# Altium footprint library SSOP24.PcbLib: 4 footprints
Each footprint in its own frame and in the unit in brackets; x right, y up, seen from the top. Pads: shape width x height; smd on the part's side, far side on the other; paste and mask are expansions set on the pad; w line width, h text height; cw(c..) or ccw(c..) is an arc to the next point about the centre after c.
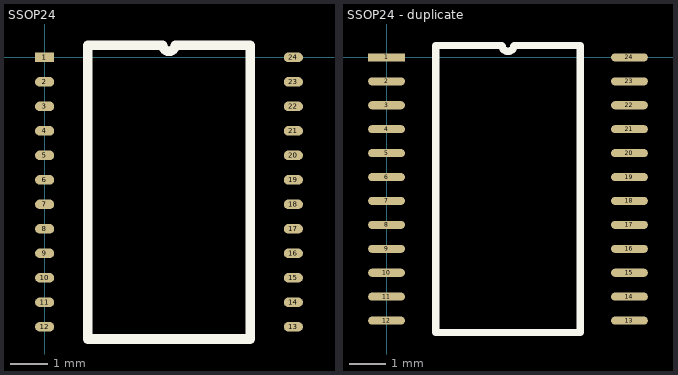
[diagram p0: the footprints below, top view; thin cyan lines are the x and y axes]

## PCBComponent_1 [mil]

## PCBComponent_1 - duplicate [mil]

## SSOP24 [mil]
pads (24):
  rect 20x10 smd: 1(0,0)
  oval 20x10 smd: 2(0,-25.6) 3(0,-51.2) 4(0,-76.8) 5(0,-102.4) 6(0,-128) 7(0,-153.6) 8(0,-179.2) 9(0,-204.8) 10(0,-230.4) 11(0,-256) 12(0,-281.6) 13(260,-281.6) 14(260,-256) 15(260,-230.4) 16(260,-204.8) 17(260,-179.2) 18(260,-153.6) 19(260,-128) 20(260,-102.4) 21(260,-76.8) 22(260,-51.2) 23(260,-25.6) 24(260,0)
Top Overlay:
  lines w10: 45,-294.4 45,12.8 123.6,12.8 ccw(c130,12.8) 136.4,12.8 215,12.8 215,-294.4 45,-294.4

## SSOP24 - duplicate [mm]
pads (24):
  rect 1x0.22 smd: 1(0,0)
  oval 1x0.22 smd: 2(0,-0.65) 3(0,-1.3) 4(0,-1.95) 5(0,-2.6) 6(0,-3.25) 7(0,-3.9) 8(0,-4.55) 9(0,-5.2) 10(0,-5.85) 11(0,-6.5) 12(0,-7.15) 13(6.6,-7.15) 14(6.6,-6.5) 15(6.6,-5.85) 16(6.6,-5.2) 17(6.6,-4.55) 18(6.6,-3.9) 19(6.6,-3.25) 20(6.6,-2.6) 21(6.6,-1.95) 22(6.6,-1.3) 23(6.6,-0.65) 24(6.6,0)
Top Overlay:
  lines w0.2: 1.335,-7.475 1.335,0.325 3.137,0.325 ccw(c3.3,0.325) 3.462,0.325 5.265,0.325 5.265,-7.475 1.335,-7.475